# Altium schematic symbol library SIP32419DN-T1-GE4.SchLib: 1 symbol
Pins are listed as number, name and electrical type; pins without a type are passive.

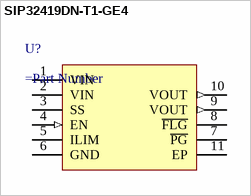
[diagram p0: symbol SIP32419DN-T1-GE4]

## SIP32419DN-T1-GE4
designator U?
=Description
pins: 1 VIN (power), 2 VIN (power), 3 SS, 4 EN (in), 5 ILIM, 6 GND (power), 7 ~{PG}, 8 ~{FLG}, 9 VOUT (out), 10 VOUT (out), 11 EP